# Altium footprint library PCB - CONNECTOR - MOLEX - MOLEX 0530480410.PcbLib: 1 footprints
Each footprint in its own frame and in the unit in brackets; x right, y up, seen from the top. Pads: shape width x height; smd on the part's side, far side on the other; paste and mask are expansions set on the pad; w line width, h text height; cw(c..) or ccw(c..) is an arc to the next point about the centre after c.
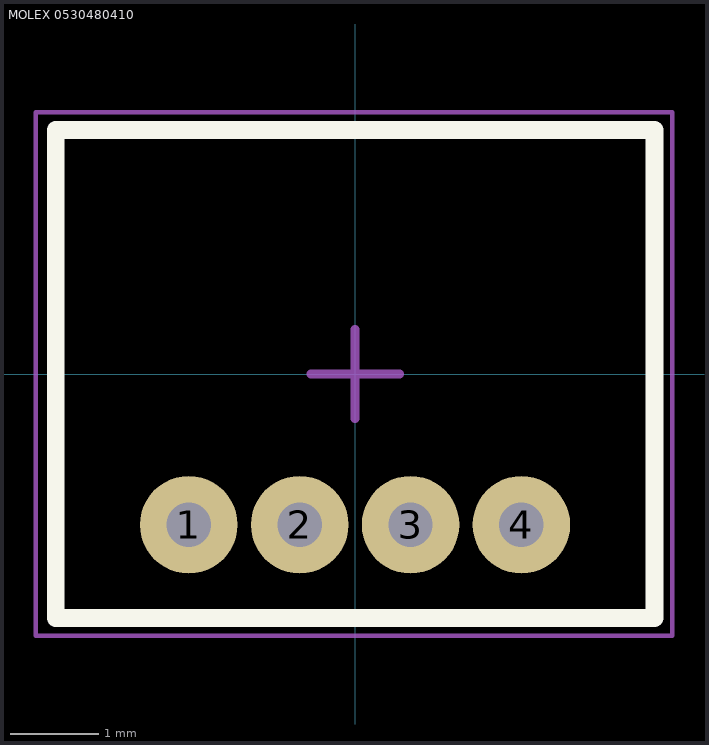
[diagram p0: the footprint, top view; thin cyan lines are the x and y axes]

## MOLEX 0530480410 [mm] "Connector Header Through Hole, Right Angle 4 position, 1.25mm Pitch, 6.75x5.50 mm Body"
height 3.5
pads (4):
  round 1.1 hole 0.5: 1(-1.875,-1.7) 2(-0.625,-1.7) 3(0.625,-1.7) 4(1.875,-1.7)
Top Overlay:
  lines w0.2: -3.375,-2.75 3.375,-2.75 3.375,2.75 -3.375,2.75 -3.375,-2.75
Mechanical 13:
  lines w0.1: -3.375,-2.75 3.375,-2.75 3.375,2.75 -3.375,2.75 -3.375,-2.75
Mechanical 15 (Mech15):
  lines w0.05: -3.6,-2.95 3.575,-2.95 3.575,2.95 -3.6,2.95 -3.6,-2.95
  lines w0.1: -0.5,0 0,0 ; 0,-0.5 0,0 ; 0,0.5 0,0 ; 0.5,0 0,0
3D body: height 3.5, standoff -2.3, extent -3.375,-2.75 3.375,2.75